# Altium integrated library TI_Logic_Little_Logic.IntLib: 1164 symbols (part 10 of 35)
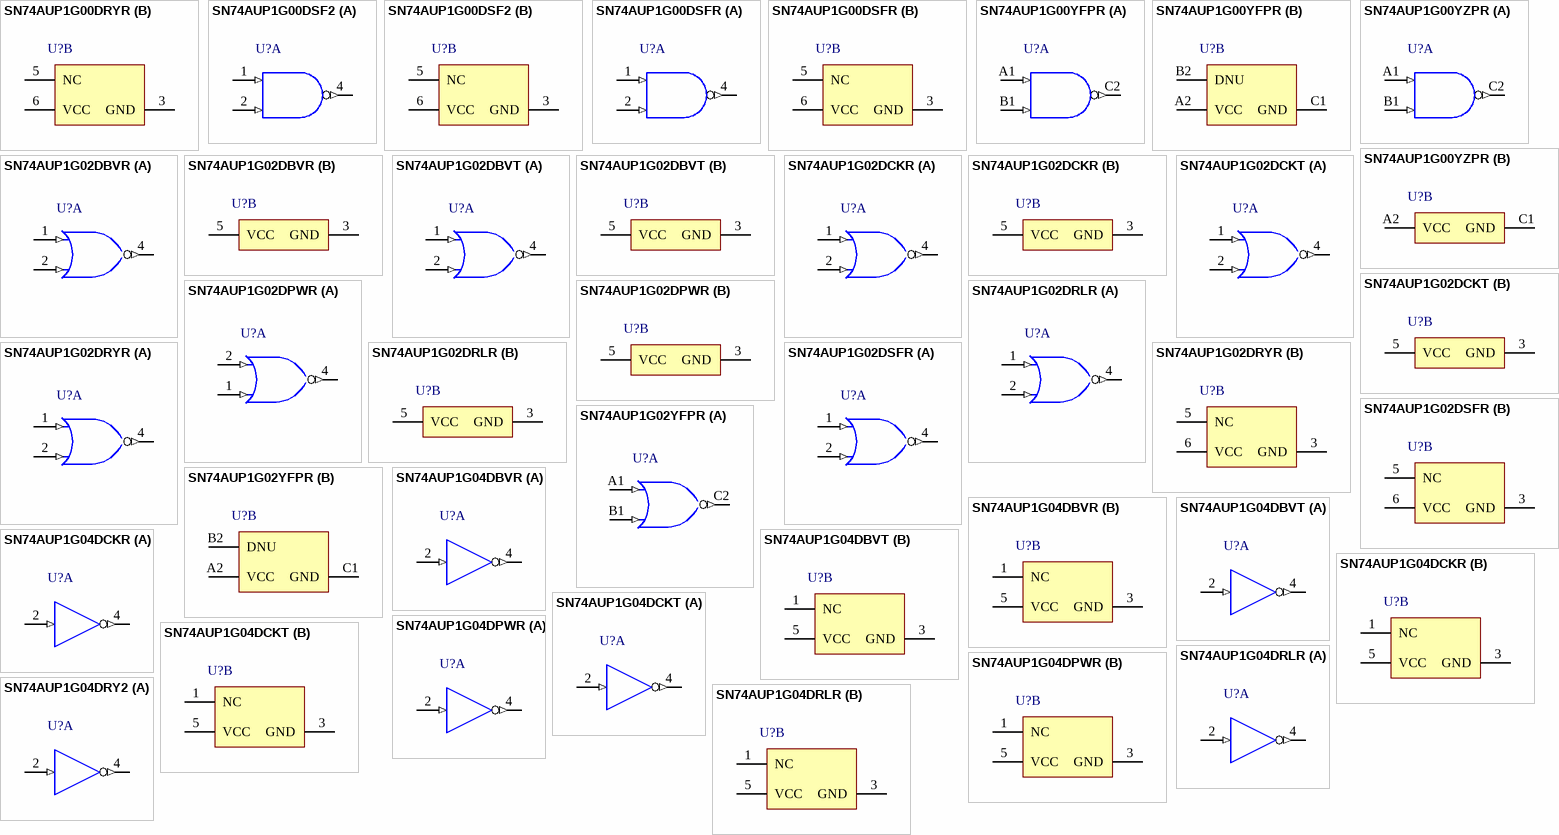
[diagram p69: symbols SN74AUP1G00DRYR to SN74AUP1G04DRY2]

## SN74AUP1G04DCKR
designator U?
Low-Power Single Inverter Gate, DCK0005A, LARGE T&R; Generic Part Number: SN74AUP1G04; Manufacturer: Texas Instruments; PartNumber: SN74AUP1G04DCKR; VCC(Min)(V): 0.8; VCC(Max)(V): 3.6; Output Type: CMOS; ICC @ Nom Voltage(Max)(mA): 0.0009; Bits(#): 1; F @ Nom Voltage(Max)(Mhz): 100; Rating: Catalog; Technology Family: AUP; Voltage(Nom)(V): 0.8,1.2,1.5,1.8,2.5,3.3; Schmitt Trigger: No; Output Drive (IOL/IOH)(Max)(mA): 20/-20; tpd @ Nom Voltage(Max)(ns): 25.4,16,10.8,9.2,6.5,5.4; Logic: Inverting; Sub-Family: Inverting Buffer/Driver; DatasheetVersion: SCES571K; PackageReference: DCK0005A; Supplier 1: Mouser; Supplier Part Number 1: 595-SN74AUP1G04DCKR; Supplier 2: Digi-Key; Supplier Part Number 2: 296-19072-2-ND; Supplier 3: Digi-Key; Supplier Part Number 3: 296-19072-1-ND; Supplier 4: Digi-Key; Supplier Part Number 4: 296-19072-6-ND; Input Type: CMOS; Operating Temperature Range(C): -40 to 85; 3-State Output: No; ComponentLink1Description: Manufacturer URL; ComponentLink1URL: http://www.ti.com/; ComponentLink2Description: Datasheet; ComponentLink2URL: http://www.ti.com/lit/ds/symlink/sn74aup1g04.pdf
footprint DCK0005A_N (SOT23, 5-Leads, Body 2.15x1.4mm, Pitch 0.65mm, IPC Medium Density)
footprint DCK0005A_M (SOT23, 5-Leads, Body 2.15x1.4mm, Pitch 0.65mm, IPC Low Density)
footprint DCK0005A_L (SOT23, 5-Leads, Body 2.15x1.4mm, Pitch 0.65mm, IPC High Density)
part A pins: 2 A (in) "Input A", 4 Y (out) "Output Y"
part B pins: 1 NC "Ground", 3 GND (power) "Ground Pin", 5 VCC (power) "Power Pin"

## SN74AUP1G04DCKT
designator U?
Low-Power Single Inverter Gate, DCK0005A, SMALL T&R; Generic Part Number: SN74AUP1G04; Manufacturer: Texas Instruments; PartNumber: SN74AUP1G04DCKT; VCC(Min)(V): 0.8; VCC(Max)(V): 3.6; Output Type: CMOS; ICC @ Nom Voltage(Max)(mA): 0.0009; Bits(#): 1; F @ Nom Voltage(Max)(Mhz): 100; Rating: Catalog; Technology Family: AUP; Voltage(Nom)(V): 0.8,1.2,1.5,1.8,2.5,3.3; Schmitt Trigger: No; Output Drive (IOL/IOH)(Max)(mA): 20/-20; tpd @ Nom Voltage(Max)(ns): 25.4,16,10.8,9.2,6.5,5.4; Logic: Inverting; Sub-Family: Inverting Buffer/Driver; DatasheetVersion: SCES571K; PackageReference: DCK0005A; Supplier 1: Mouser; Supplier Part Number 1: 595-SN74AUP1G04DCKT; Supplier 2: Digi-Key; Supplier Part Number 2: 296-32254-2-ND; Supplier 3: Digi-Key; Supplier Part Number 3: 296-32254-1-ND; Supplier 4: Digi-Key; Supplier Part Number 4: 296-32254-6-ND; Input Type: CMOS; Operating Temperature Range(C): -40 to 85; 3-State Output: No; ComponentLink1Description: Manufacturer URL; ComponentLink1URL: http://www.ti.com/; ComponentLink2Description: Datasheet; ComponentLink2URL: http://www.ti.com/lit/ds/symlink/sn74aup1g04.pdf
footprint DCK0005A_N (SOT23, 5-Leads, Body 2.15x1.4mm, Pitch 0.65mm, IPC Medium Density)
footprint DCK0005A_M (SOT23, 5-Leads, Body 2.15x1.4mm, Pitch 0.65mm, IPC Low Density)
footprint DCK0005A_L (SOT23, 5-Leads, Body 2.15x1.4mm, Pitch 0.65mm, IPC High Density)
part A pins: 2 A (in) "Input A", 4 Y (out) "Output Y"
part B pins: 1 NC "Ground", 3 GND (power) "Ground Pin", 5 VCC (power) "Power Pin"

## SN74AUP1G04DPWR
designator U?
Low-Power Single Inverter Gate, DPW0004A, LARGE T&R; Generic Part Number: SN74AUP1G04; Manufacturer: Texas Instruments; PartNumber: SN74AUP1G04DPWR; VCC(Min)(V): 0.8; VCC(Max)(V): 3.6; Output Type: CMOS; ICC @ Nom Voltage(Max)(mA): 0.0009; Bits(#): 1; F @ Nom Voltage(Max)(Mhz): 100; Rating: Catalog; Technology Family: AUP; Voltage(Nom)(V): 0.8,1.2,1.5,1.8,2.5,3.3; Schmitt Trigger: No; Output Drive (IOL/IOH)(Max)(mA): 20/-20; tpd @ Nom Voltage(Max)(ns): 25.4,16,10.8,9.2,6.5,5.4; Logic: Inverting; Sub-Family: Inverting Buffer/Driver; DatasheetVersion: SCES571K; PackageReference: DPW0004A; Supplier 1: Mouser; Supplier Part Number 1: 595-SN74AUP1G04DPWR; Supplier 2: Digi-Key; Supplier Part Number 2: 296-38019-2-ND; Supplier 3: Digi-Key; Supplier Part Number 3: 296-38019-1-ND; Supplier 4: Digi-Key; Supplier Part Number 4: 296-38019-6-ND; Input Type: CMOS; Operating Temperature Range(C): -40 to 85; 3-State Output: No; ComponentLink1Description: Manufacturer URL; ComponentLink1URL: http://www.ti.com/; ComponentLink2Description: Datasheet; ComponentLink2URL: http://www.ti.com/lit/ds/symlink/sn74aup1g04.pdf
footprint DPW0004A_V (SON, 5-Leads, Body 0.8x0.8mm, TI Recommend)
part A pins: 2 A (in) "Input A", 4 Y (out) "Output Y"
part B pins: 1 NC "Ground", 3 GND (power) "Ground Pin", 5 VCC (power) "Power Pin"

## SN74AUP1G04DRLR
designator U?
Low-Power Single Inverter Gate, DRL0005A, LARGE T&R; Generic Part Number: SN74AUP1G04; Manufacturer: Texas Instruments; PartNumber: SN74AUP1G04DRLR; VCC(Min)(V): 0.8; VCC(Max)(V): 3.6; Output Type: CMOS; ICC @ Nom Voltage(Max)(mA): 0.0009; Bits(#): 1; F @ Nom Voltage(Max)(Mhz): 100; Rating: Catalog; Technology Family: AUP; Voltage(Nom)(V): 0.8,1.2,1.5,1.8,2.5,3.3; Schmitt Trigger: No; Output Drive (IOL/IOH)(Max)(mA): 20/-20; tpd @ Nom Voltage(Max)(ns): 25.4,16,10.8,9.2,6.5,5.4; Logic: Inverting; Sub-Family: Inverting Buffer/Driver; DatasheetVersion: SCES571K; PackageReference: DRL0005A; Supplier 1: Mouser; Supplier Part Number 1: 595-SN74AUP1G04DRLR; Supplier 2: Digi-Key; Supplier Part Number 2: 296-19285-2-ND; Supplier 3: Digi-Key; Supplier Part Number 3: 296-19285-1-ND; Supplier 4: Digi-Key; Supplier Part Number 4: 296-19285-6-ND; Input Type: CMOS; Operating Temperature Range(C): -40 to 85; 3-State Output: No; ComponentLink1Description: Manufacturer URL; ComponentLink1URL: http://www.ti.com/; ComponentLink2Description: Datasheet; ComponentLink2URL: http://www.ti.com/lit/ds/symlink/sn74aup1g04.pdf
footprint DRL0005A_N (SOT23, 5-Leads, Body 1.7x1.3mm, Pitch 0.5mm, IPC Medium Density)
footprint DRL0005A_M (SOT23, 5-Leads, Body 1.7x1.3mm, Pitch 0.5mm, IPC Low Density)
footprint DRL0005A_L (SOT23, 5-Leads, Body 1.7x1.3mm, Pitch 0.5mm, IPC High Density)
part A pins: 2 A (in) "Input A", 4 Y (out) "Output Y"
part B pins: 1 NC "Ground", 3 GND (power) "Ground Pin", 5 VCC (power) "Power Pin"

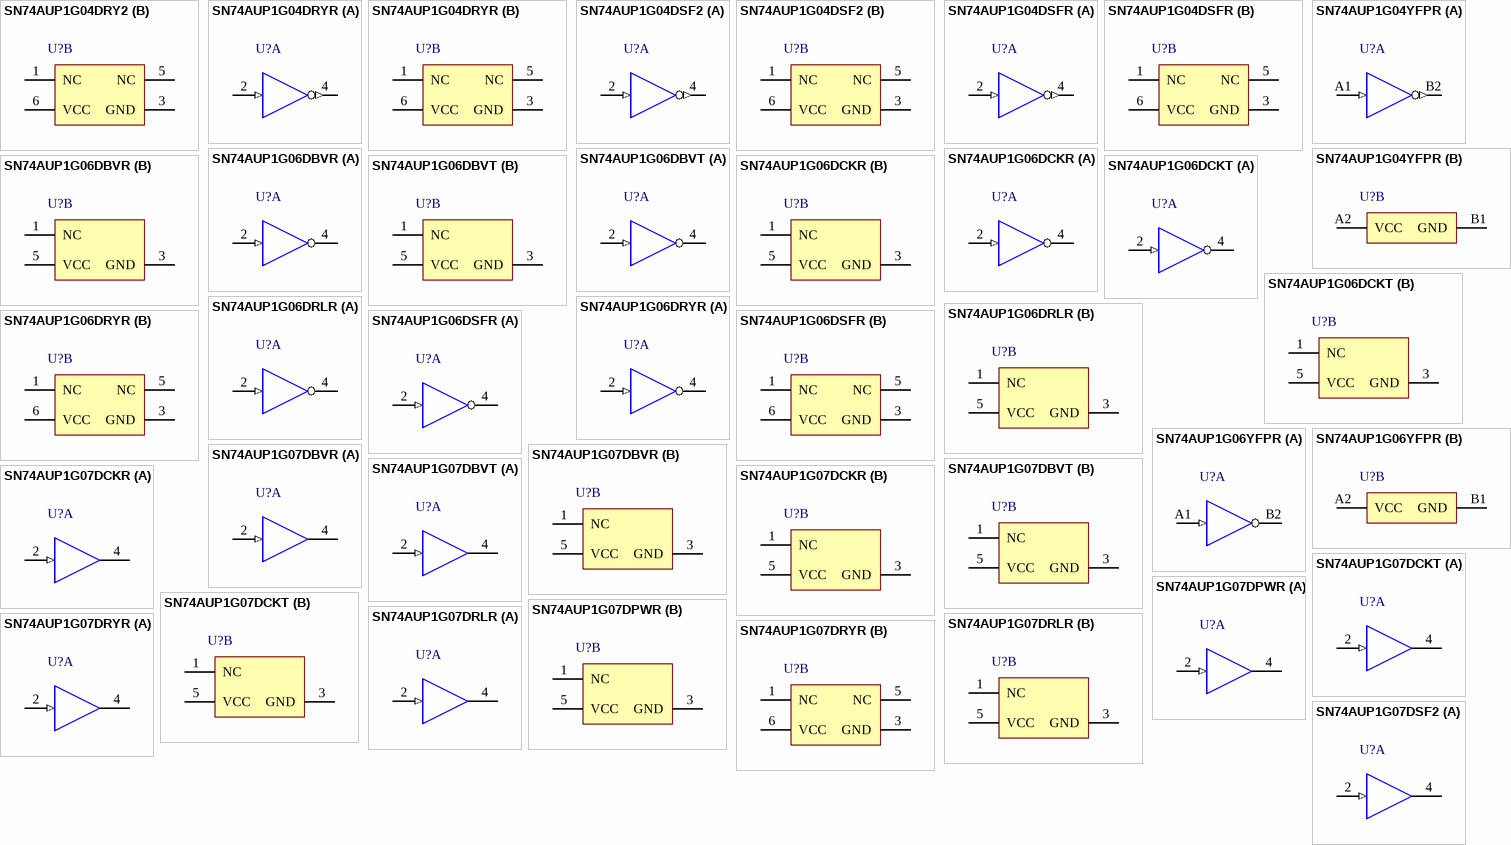
[diagram p16: symbols SN74AUP1G04DRY2 to SN74AUP1G07DSF2]

## SN74AUP1G04DRY2
designator U?
Low-Power Single Inverter Gate, DRY0006A, LARGE T&R; Generic Part Number: SN74AUP1G04; Manufacturer: Texas Instruments; PartNumber: SN74AUP1G04DRY2; VCC(Min)(V): 0.8; VCC(Max)(V): 3.6; Output Type: CMOS; ICC @ Nom Voltage(Max)(mA): 0.0009; Bits(#): 1; F @ Nom Voltage(Max)(Mhz): 100; Rating: Catalog; Technology Family: AUP; Voltage(Nom)(V): 0.8,1.2,1.5,1.8,2.5,3.3; Schmitt Trigger: No; Output Drive (IOL/IOH)(Max)(mA): 20/-20; tpd @ Nom Voltage(Max)(ns): 25.4,16,10.8,9.2,6.5,5.4; Logic: Inverting; Sub-Family: Inverting Buffer/Driver; DatasheetVersion: SCES571K; PackageReference: DRY0006A; Supplier 1: Mouser; Supplier Part Number 1: 595-SN74AUP1G04DRY2; Supplier 2: Digi-Key; Supplier Part Number 2: 296-30063-2-ND; Supplier 3: Digi-Key; Supplier Part Number 3: 296-30063-1-ND; Supplier 4: Digi-Key; Supplier Part Number 4: 296-30063-6-ND; Input Type: CMOS; Operating Temperature Range(C): -40 to 85; 3-State Output: No; ComponentLink1Description: Manufacturer URL; ComponentLink1URL: http://www.ti.com/; ComponentLink2Description: Datasheet; ComponentLink2URL: http://www.ti.com/lit/ds/symlink/sn74aup1g04.pdf
footprint DRY0006A_V (SON, 6-Leads, Body 1.45x1mm, Pitch 0.5mm)
part A pins: 2 A (in), 4 Y (out)
part B pins: 1 NC, 3 GND (power), 5 NC, 6 VCC (power)

## SN74AUP1G04DRYR
designator U?
Low-Power Single Inverter Gate, DRY0006A, LARGE T&R; Generic Part Number: SN74AUP1G04; Manufacturer: Texas Instruments; PartNumber: SN74AUP1G04DRYR; VCC(Min)(V): 0.8; VCC(Max)(V): 3.6; Output Type: CMOS; ICC @ Nom Voltage(Max)(mA): 0.0009; Bits(#): 1; F @ Nom Voltage(Max)(Mhz): 100; Rating: Catalog; Technology Family: AUP; Voltage(Nom)(V): 0.8,1.2,1.5,1.8,2.5,3.3; Schmitt Trigger: No; Output Drive (IOL/IOH)(Max)(mA): 20/-20; tpd @ Nom Voltage(Max)(ns): 25.4,16,10.8,9.2,6.5,5.4; Logic: Inverting; Sub-Family: Inverting Buffer/Driver; DatasheetVersion: SCES571K; PackageReference: DRY0006A; Supplier 1: Mouser; Supplier Part Number 1: 595-SN74AUP1G04DRYR; Supplier 2: Digi-Key; Supplier Part Number 2: 296-27339-2-ND; Supplier 3: Digi-Key; Supplier Part Number 3: 296-27339-1-ND; Supplier 4: Digi-Key; Supplier Part Number 4: 296-27339-6-ND; Input Type: CMOS; Operating Temperature Range(C): -40 to 85; 3-State Output: No; ComponentLink1Description: Manufacturer URL; ComponentLink1URL: http://www.ti.com/; ComponentLink2Description: Datasheet; ComponentLink2URL: http://www.ti.com/lit/ds/symlink/sn74aup1g04.pdf
footprint DRY0006A_V (SON, 6-Leads, Body 1.45x1mm, Pitch 0.5mm)
part A pins: 2 A (in), 4 Y (out)
part B pins: 1 NC, 3 GND (power), 5 NC, 6 VCC (power)

## SN74AUP1G04DSF2
designator U?
Low-Power Single Inverter Gate, DSF0006A, LARGE T&R; Generic Part Number: SN74AUP1G04; Manufacturer: Texas Instruments; PartNumber: SN74AUP1G04DSF2; VCC(Min)(V): 0.8; VCC(Max)(V): 3.6; Output Type: CMOS; ICC @ Nom Voltage(Max)(mA): 0.0009; Bits(#): 1; F @ Nom Voltage(Max)(Mhz): 100; Rating: Catalog; Technology Family: AUP; Voltage(Nom)(V): 0.8,1.2,1.5,1.8,2.5,3.3; Schmitt Trigger: No; Output Drive (IOL/IOH)(Max)(mA): 20/-20; tpd @ Nom Voltage(Max)(ns): 25.4,16,10.8,9.2,6.5,5.4; Logic: Inverting; Sub-Family: Inverting Buffer/Driver; DatasheetVersion: SCES571K; PackageReference: DSF0006A; Supplier 1: Mouser; Supplier Part Number 1: 595-SN74AUP1G04DSF2; Supplier 2: Digi-Key; Supplier Part Number 2: SN74AUP1G04DSF2-ND; Input Type: CMOS; Operating Temperature Range(C): -40 to 85; 3-State Output: No; ComponentLink1Description: Manufacturer URL; ComponentLink1URL: http://www.ti.com/; ComponentLink2Description: Datasheet; ComponentLink2URL: http://www.ti.com/lit/ds/symlink/sn74aup1g04.pdf
footprint DSF0006A_V (SON, 6-Leads, Body 1x1mm, Pitch 0.35mm, TI Recommend)
part A pins: 2 A (in), 4 Y (out)
part B pins: 1 NC, 3 GND (power), 5 NC, 6 VCC (power)

## SN74AUP1G04DSFR
designator U?
Low-Power Single Inverter Gate, DSF0006A, LARGE T&R; Generic Part Number: SN74AUP1G04; Manufacturer: Texas Instruments; PartNumber: SN74AUP1G04DSFR; VCC(Min)(V): 0.8; VCC(Max)(V): 3.6; Output Type: CMOS; ICC @ Nom Voltage(Max)(mA): 0.0009; Bits(#): 1; F @ Nom Voltage(Max)(Mhz): 100; Rating: Catalog; Technology Family: AUP; Voltage(Nom)(V): 0.8,1.2,1.5,1.8,2.5,3.3; Schmitt Trigger: No; Output Drive (IOL/IOH)(Max)(mA): 20/-20; tpd @ Nom Voltage(Max)(ns): 25.4,16,10.8,9.2,6.5,5.4; Logic: Inverting; Sub-Family: Inverting Buffer/Driver; DatasheetVersion: SCES571K; PackageReference: DSF0006A; Supplier 1: Mouser; Supplier Part Number 1: 595-SN74AUP1G04DSFR; Supplier 2: Digi-Key; Supplier Part Number 2: 296-27266-2-ND; Supplier 3: Digi-Key; Supplier Part Number 3: 296-27266-1-ND; Supplier 4: Digi-Key; Supplier Part Number 4: 296-27266-6-ND; Input Type: CMOS; Operating Temperature Range(C): -40 to 85; 3-State Output: No; ComponentLink1Description: Manufacturer URL; ComponentLink1URL: http://www.ti.com/; ComponentLink2Description: Datasheet; ComponentLink2URL: http://www.ti.com/lit/ds/symlink/sn74aup1g04.pdf
footprint DSF0006A_V (SON, 6-Leads, Body 1x1mm, Pitch 0.35mm, TI Recommend)
part A pins: 2 A (in), 4 Y (out)
part B pins: 1 NC, 3 GND (power), 5 NC, 6 VCC (power)

## SN74AUP1G04YFPR
designator U?
Low-Power Single Inverter Gate, YZP0004AAAA, LARGE T&R; Generic Part Number: SN74AUP1G04; Manufacturer: Texas Instruments; PartNumber: SN74AUP1G04YFPR; VCC(Min)(V): 0.8; VCC(Max)(V): 3.6; Output Type: CMOS; ICC @ Nom Voltage(Max)(mA): 0.0009; Bits(#): 1; F @ Nom Voltage(Max)(Mhz): 100; Rating: Catalog; Technology Family: AUP; Voltage(Nom)(V): 0.8,1.2,1.5,1.8,2.5,3.3; Schmitt Trigger: No; Output Drive (IOL/IOH)(Max)(mA): 20/-20; tpd @ Nom Voltage(Max)(ns): 25.4,16,10.8,9.2,6.5,5.4; Logic: Inverting; Sub-Family: Inverting Buffer/Driver; DatasheetVersion: SCES571K; PackageReference: YZP0004AAAA; Supplier 1: Mouser; Supplier Part Number 1: 595-SN74AUP1G04YFPR; Supplier 2: Digi-Key; Supplier Part Number 2: 296-25196-2-ND; Supplier 3: Digi-Key; Supplier Part Number 3: 296-25196-1-ND; Supplier 4: Digi-Key; Supplier Part Number 4: 296-25196-6-ND; Input Type: CMOS; Operating Temperature Range(C): -40 to 85; 3-State Output: No; ComponentLink1Description: Manufacturer URL; ComponentLink1URL: http://www.ti.com/; ComponentLink2Description: Datasheet; ComponentLink2URL: http://www.ti.com/lit/ds/symlink/sn74aup1g04.pdf
footprint YZP0004AAAA (BGA, 4-Balls, Body 0.76x0.76mm, Pitch 0.4mm)
part A pins: A1 A (in) "Input", B2 Y (out) "Output"
part B pins: A2 VCC (power) "Power pin", B1 GND (power) "Ground"

## SN74AUP1G06DBVR
designator U?
Low-Power Single Inverter Buffer/Driver with Open-Drain Outputs, DBV0005A, LARGE T&R; Generic Part Number: SN74AUP1G06; Manufacturer: Texas Instruments; PartNumber: SN74AUP1G06DBVR; VCC(Min)(V): 0.8; VCC(Max)(V): 3.6; Output Type: CMOS; ICC @ Nom Voltage(Max)(mA): 0.0009; Bits(#): 1; F @ Nom Voltage(Max)(Mhz): 100; Rating: Catalog; Technology Family: AUP; Voltage(Nom)(V): 0.8,1.2,1.5,1.8,2.5,3.3; Schmitt Trigger: No; Output Drive (IOL/IOH)(Max)(mA): 20/-20; tpd @ Nom Voltage(Max)(ns): 25.3,16,10.1,10.7,7.1,10.5; Logic: Inverting; Sub-Family: Inverting Buffer/Driver; DatasheetVersion: SCES590D; PackageReference: DBV0005A; Supplier 1: Mouser; Supplier Part Number 1: 595-SN74AUP1G06DBVR; Supplier 2: Digi-Key; Supplier Part Number 2: 296-17561-2-ND; Supplier 3: Digi-Key; Supplier Part Number 3: 296-17561-1-ND; Supplier 4: Digi-Key; Supplier Part Number 4: 296-17561-6-ND; Input Type: CMOS; Operating Temperature Range(C): -40 to 85; 3-State Output: No; ComponentLink1Description: Manufacturer URL; ComponentLink1URL: http://www.ti.com/; ComponentLink2Description: Datasheet; ComponentLink2URL: http://www.ti.com/lit/ds/symlink/sn74aup1g06.pdf
footprint DBV0005A_N (SOT23, 5-Leads, Body 3.05x1.75mm, Pitch 0.95mm, IPC Medium Density)
footprint DBV0005A_M (SOT23, 5-Leads, Body 3.05x1.75mm, Pitch 0.95mm, IPC Low Density)
footprint DBV0005A_L (SOT23, 5-Leads, Body 3.05x1.75mm, Pitch 0.95mm, IPC High Density)
part A pins: 2 A (in), 4 Y (oc)
part B pins: 1 NC, 3 GND (power), 5 VCC (power)

## SN74AUP1G06DBVT
designator U?
Low-Power Single Inverter Buffer/Driver with Open-Drain Outputs, DBV0005A, SMALL T&R; Generic Part Number: SN74AUP1G06; Manufacturer: Texas Instruments; PartNumber: SN74AUP1G06DBVT; VCC(Min)(V): 0.8; VCC(Max)(V): 3.6; Output Type: CMOS; ICC @ Nom Voltage(Max)(mA): 0.0009; Bits(#): 1; F @ Nom Voltage(Max)(Mhz): 100; Rating: Catalog; Technology Family: AUP; Voltage(Nom)(V): 0.8,1.2,1.5,1.8,2.5,3.3; Schmitt Trigger: No; Output Drive (IOL/IOH)(Max)(mA): 20/-20; tpd @ Nom Voltage(Max)(ns): 25.3,16,10.1,10.7,7.1,10.5; Logic: Inverting; Sub-Family: Inverting Buffer/Driver; DatasheetVersion: SCES590D; PackageReference: DBV0005A; Supplier 1: Mouser; Supplier Part Number 1: 595-SN74AUP1G06DBVT; Supplier 2: Digi-Key; Supplier Part Number 2: SN74AUP1G06DBVT-ND; Input Type: CMOS; Operating Temperature Range(C): -40 to 85; 3-State Output: No; ComponentLink1Description: Manufacturer URL; ComponentLink1URL: http://www.ti.com/; ComponentLink2Description: Datasheet; ComponentLink2URL: http://www.ti.com/lit/ds/symlink/sn74aup1g06.pdf
footprint DBV0005A_N (SOT23, 5-Leads, Body 3.05x1.75mm, Pitch 0.95mm, IPC Medium Density)
footprint DBV0005A_M (SOT23, 5-Leads, Body 3.05x1.75mm, Pitch 0.95mm, IPC Low Density)
footprint DBV0005A_L (SOT23, 5-Leads, Body 3.05x1.75mm, Pitch 0.95mm, IPC High Density)
part A pins: 2 A (in), 4 Y (oc)
part B pins: 1 NC, 3 GND (power), 5 VCC (power)

## SN74AUP1G06DCKR
designator U?
Low-Power Single Inverter Buffer/Driver with Open-Drain Outputs, DCK0005A, LARGE T&R; Generic Part Number: SN74AUP1G06; Manufacturer: Texas Instruments; PartNumber: SN74AUP1G06DCKR; VCC(Min)(V): 0.8; VCC(Max)(V): 3.6; Output Type: CMOS; ICC @ Nom Voltage(Max)(mA): 0.0009; Bits(#): 1; F @ Nom Voltage(Max)(Mhz): 100; Rating: Catalog; Technology Family: AUP; Voltage(Nom)(V): 0.8,1.2,1.5,1.8,2.5,3.3; Schmitt Trigger: No; Output Drive (IOL/IOH)(Max)(mA): 20/-20; tpd @ Nom Voltage(Max)(ns): 25.3,16,10.1,10.7,7.1,10.5; Logic: Inverting; Sub-Family: Inverting Buffer/Driver; DatasheetVersion: SCES590D; PackageReference: DCK0005A; Supplier 1: Mouser; Supplier Part Number 1: 595-SN74AUP1G06DCKR; Supplier 2: Digi-Key; Supplier Part Number 2: 296-17562-2-ND; Supplier 3: Digi-Key; Supplier Part Number 3: 296-17562-1-ND; Supplier 4: Digi-Key; Supplier Part Number 4: 296-17562-6-ND; Input Type: CMOS; Operating Temperature Range(C): -40 to 85; 3-State Output: No; ComponentLink1Description: Manufacturer URL; ComponentLink1URL: http://www.ti.com/; ComponentLink2Description: Datasheet; ComponentLink2URL: http://www.ti.com/lit/ds/symlink/sn74aup1g06.pdf
footprint DCK0005A_N (SOT23, 5-Leads, Body 2.15x1.4mm, Pitch 0.65mm, IPC Medium Density)
footprint DCK0005A_M (SOT23, 5-Leads, Body 2.15x1.4mm, Pitch 0.65mm, IPC Low Density)
footprint DCK0005A_L (SOT23, 5-Leads, Body 2.15x1.4mm, Pitch 0.65mm, IPC High Density)
part A pins: 2 A (in), 4 Y (oc)
part B pins: 1 NC, 3 GND (power), 5 VCC (power)

## SN74AUP1G06DCKT
designator U?
Low-Power Single Inverter Buffer/Driver with Open-Drain Outputs, DCK0005A, SMALL T&R; Generic Part Number: SN74AUP1G06; Manufacturer: Texas Instruments; PartNumber: SN74AUP1G06DCKT; VCC(Min)(V): 0.8; VCC(Max)(V): 3.6; Output Type: CMOS; ICC @ Nom Voltage(Max)(mA): 0.0009; Bits(#): 1; F @ Nom Voltage(Max)(Mhz): 100; Rating: Catalog; Technology Family: AUP; Voltage(Nom)(V): 0.8,1.2,1.5,1.8,2.5,3.3; Schmitt Trigger: No; Output Drive (IOL/IOH)(Max)(mA): 20/-20; tpd @ Nom Voltage(Max)(ns): 25.3,16,10.1,10.7,7.1,10.5; Logic: Inverting; Sub-Family: Inverting Buffer/Driver; DatasheetVersion: SCES590D; PackageReference: DCK0005A; Supplier 1: Mouser; Supplier Part Number 1: 595-SN74AUP1G06DCKT; Supplier 2: Digi-Key; Supplier Part Number 2: 296-32255-2-ND; Supplier 3: Digi-Key; Supplier Part Number 3: 296-32255-1-ND; Supplier 4: Digi-Key; Supplier Part Number 4: 296-32255-6-ND; Input Type: CMOS; Operating Temperature Range(C): -40 to 85; 3-State Output: No; ComponentLink1Description: Manufacturer URL; ComponentLink1URL: http://www.ti.com/; ComponentLink2Description: Datasheet; ComponentLink2URL: http://www.ti.com/lit/ds/symlink/sn74aup1g06.pdf
footprint DCK0005A_N (SOT23, 5-Leads, Body 2.15x1.4mm, Pitch 0.65mm, IPC Medium Density)
footprint DCK0005A_M (SOT23, 5-Leads, Body 2.15x1.4mm, Pitch 0.65mm, IPC Low Density)
footprint DCK0005A_L (SOT23, 5-Leads, Body 2.15x1.4mm, Pitch 0.65mm, IPC High Density)
part A pins: 2 A (in), 4 Y (oc)
part B pins: 1 NC, 3 GND (power), 5 VCC (power)

## SN74AUP1G06DRLR
designator U?
Low-Power Single Inverter Buffer/Driver with Open-Drain Outputs, DRL0005A, LARGE T&R; Generic Part Number: SN74AUP1G06; Manufacturer: Texas Instruments; PartNumber: SN74AUP1G06DRLR; VCC(Min)(V): 0.8; VCC(Max)(V): 3.6; Output Type: CMOS; ICC @ Nom Voltage(Max)(mA): 0.0009; Bits(#): 1; F @ Nom Voltage(Max)(Mhz): 100; Rating: Catalog; Technology Family: AUP; Voltage(Nom)(V): 0.8,1.2,1.5,1.8,2.5,3.3; Schmitt Trigger: No; Output Drive (IOL/IOH)(Max)(mA): 20/-20; tpd @ Nom Voltage(Max)(ns): 25.3,16,10.1,10.7,7.1,10.5; Logic: Inverting; Sub-Family: Inverting Buffer/Driver; DatasheetVersion: SCES590D; PackageReference: DRL0005A; Supplier 1: Mouser; Supplier Part Number 1: 595-SN74AUP1G06DRLR; Supplier 2: Digi-Key; Supplier Part Number 2: 296-21810-2-ND; Supplier 3: Digi-Key; Supplier Part Number 3: 296-21810-1-ND; Supplier 4: Digi-Key; Supplier Part Number 4: 296-21810-6-ND; Input Type: CMOS; Operating Temperature Range(C): -40 to 85; 3-State Output: No; ComponentLink1Description: Manufacturer URL; ComponentLink1URL: http://www.ti.com/; ComponentLink2Description: Datasheet; ComponentLink2URL: http://www.ti.com/lit/ds/symlink/sn74aup1g06.pdf
footprint DRL0005A_N (SOT23, 5-Leads, Body 1.7x1.3mm, Pitch 0.5mm, IPC Medium Density)
footprint DRL0005A_M (SOT23, 5-Leads, Body 1.7x1.3mm, Pitch 0.5mm, IPC Low Density)
footprint DRL0005A_L (SOT23, 5-Leads, Body 1.7x1.3mm, Pitch 0.5mm, IPC High Density)
part A pins: 2 A (in), 4 Y (oc)
part B pins: 1 NC, 3 GND (power), 5 VCC (power)

## SN74AUP1G06DRYR
designator U?
Low-Power Single Inverter Buffer/Driver with Open-Drain Outputs, DRY0006A, LARGE T&R; Generic Part Number: SN74AUP1G06; Manufacturer: Texas Instruments; PartNumber: SN74AUP1G06DRYR; VCC(Min)(V): 0.8; VCC(Max)(V): 3.6; Output Type: CMOS; ICC @ Nom Voltage(Max)(mA): 0.0009; Bits(#): 1; F @ Nom Voltage(Max)(Mhz): 100; Rating: Catalog; Technology Family: AUP; Voltage(Nom)(V): 0.8,1.2,1.5,1.8,2.5,3.3; Schmitt Trigger: No; Output Drive (IOL/IOH)(Max)(mA): 20/-20; tpd @ Nom Voltage(Max)(ns): 25.3,16,10.1,10.7,7.1,10.5; Logic: Inverting; Sub-Family: Inverting Buffer/Driver; DatasheetVersion: SCES590D; PackageReference: DRY0006A; Supplier 1: Mouser; Supplier Part Number 1: 595-SN74AUP1G06DRYR; Supplier 2: Digi-Key; Supplier Part Number 2: 296-27267-2-ND; Supplier 3: Digi-Key; Supplier Part Number 3: 296-27267-1-ND; Supplier 4: Digi-Key; Supplier Part Number 4: 296-27267-6-ND; Input Type: CMOS; Operating Temperature Range(C): -40 to 85; 3-State Output: No; ComponentLink1Description: Manufacturer URL; ComponentLink1URL: http://www.ti.com/; ComponentLink2Description: Datasheet; ComponentLink2URL: http://www.ti.com/lit/ds/symlink/sn74aup1g06.pdf
footprint DRY0006A_V (SON, 6-Leads, Body 1.45x1mm, Pitch 0.5mm)
part A pins: 2 A (in), 4 Y (oc)
part B pins: 1 NC, 3 GND (power), 5 NC, 6 VCC (power)

## SN74AUP1G06DSFR
designator U?
Low-Power Single Inverter Buffer/Driver with Open-Drain Outputs, DSF0006A, LARGE T&R; Generic Part Number: SN74AUP1G06; Manufacturer: Texas Instruments; PartNumber: SN74AUP1G06DSFR; VCC(Min)(V): 0.8; VCC(Max)(V): 3.6; Output Type: CMOS; ICC @ Nom Voltage(Max)(mA): 0.0009; Bits(#): 1; F @ Nom Voltage(Max)(Mhz): 100; Rating: Catalog; Technology Family: AUP; Voltage(Nom)(V): 0.8,1.2,1.5,1.8,2.5,3.3; Schmitt Trigger: No; Output Drive (IOL/IOH)(Max)(mA): 20/-20; tpd @ Nom Voltage(Max)(ns): 25.3,16,10.1,10.7,7.1,10.5; Logic: Inverting; Sub-Family: Inverting Buffer/Driver; DatasheetVersion: SCES590D; PackageReference: DSF0006A; Supplier 1: Mouser; Supplier Part Number 1: 595-SN74AUP1G06DSFR; Supplier 2: Digi-Key; Supplier Part Number 2: 296-27307-2-ND; Supplier 3: Digi-Key; Supplier Part Number 3: 296-27307-1-ND; Supplier 4: Digi-Key; Supplier Part Number 4: 296-27307-6-ND; Input Type: CMOS; Operating Temperature Range(C): -40 to 85; 3-State Output: No; ComponentLink1Description: Manufacturer URL; ComponentLink1URL: http://www.ti.com/; ComponentLink2Description: Datasheet; ComponentLink2URL: http://www.ti.com/lit/ds/symlink/sn74aup1g06.pdf
footprint DSF0006A_V (SON, 6-Leads, Body 1x1mm, Pitch 0.35mm, TI Recommend)
part A pins: 2 A (in), 4 Y (oc)
part B pins: 1 NC, 3 GND (power), 5 NC, 6 VCC (power)

## SN74AUP1G06YFPR
designator U?
Low-Power Single Inverter Buffer/Driver with Open-Drain Outputs, YZP0004AAAA, LARGE T&R; Generic Part Number: SN74AUP1G06; Manufacturer: Texas Instruments; PartNumber: SN74AUP1G06YFPR; VCC(Min)(V): 0.8; VCC(Max)(V): 3.6; Output Type: CMOS; ICC @ Nom Voltage(Max)(mA): 0.0009; Bits(#): 1; F @ Nom Voltage(Max)(Mhz): 100; Rating: Catalog; Technology Family: AUP; Voltage(Nom)(V): 0.8,1.2,1.5,1.8,2.5,3.3; Schmitt Trigger: No; Output Drive (IOL/IOH)(Max)(mA): 20/-20; tpd @ Nom Voltage(Max)(ns): 25.3,16,10.1,10.7,7.1,10.5; Logic: Inverting; Sub-Family: Inverting Buffer/Driver; DatasheetVersion: SCES590D; PackageReference: YZP0004AAAA; Supplier 1: Mouser; Supplier Part Number 1: 595-SN74AUP1G06YFPR; Supplier 2: Digi-Key; Supplier Part Number 2: 296-25197-2-ND; Supplier 3: Digi-Key; Supplier Part Number 3: 296-25197-1-ND; Supplier 4: Digi-Key; Supplier Part Number 4: 296-25197-6-ND; Input Type: CMOS; Operating Temperature Range(C): -40 to 85; 3-State Output: No; ComponentLink1Description: Manufacturer URL; ComponentLink1URL: http://www.ti.com/; ComponentLink2Description: Datasheet; ComponentLink2URL: http://www.ti.com/lit/ds/symlink/sn74aup1g06.pdf
footprint YZP0004AAAA (BGA, 4-Balls, Body 0.76x0.76mm, Pitch 0.4mm)
part A pins: A1 A (in), B2 Y (oc)
part B pins: A2 VCC (power), B1 GND (power)

## SN74AUP1G07DBVR
designator U?
Low-Power Single Buffer/Driver with Open-Drain Outputs, DBV0005A, LARGE T&R; Generic Part Number: SN74AUP1G07; Manufacturer: Texas Instruments; PartNumber: SN74AUP1G07DBVR; VCC(Min)(V): 0.8; VCC(Max)(V): 3.6; Output Type: CMOS; ICC @ Nom Voltage(Max)(mA): 0.0009; Bits(#): 1; F @ Nom Voltage(Max)(Mhz): 100; Rating: Catalog; Technology Family: AUP; Voltage(Nom)(V): 0.8,1.2,1.5,1.8,2.5,3.3; Schmitt Trigger: No; Output Drive (IOL/IOH)(Max)(mA): 20/-20; tpd @ Nom Voltage(Max)(ns): 26.5,14.4,9.4,9.7,6.7,9.7; Logic: True; Sub-Family: Non-Inverting Buffer/Driver; DatasheetVersion: SCES591J; PackageReference: DBV0005A; Supplier 1: Mouser; Supplier Part Number 1: 595-SN74AUP1G07DBVR; Supplier 2: Digi-Key; Supplier Part Number 2: 296-19073-2-ND; Supplier 3: Digi-Key; Supplier Part Number 3: 296-19073-1-ND; Supplier 4: Digi-Key; Supplier Part Number 4: 296-19073-6-ND; Input Type: CMOS; Operating Temperature Range(C): -40 to 85; 3-State Output: No; ComponentLink1Description: Manufacturer URL; ComponentLink1URL: http://www.ti.com/; ComponentLink2Description: Datasheet; ComponentLink2URL: http://www.ti.com/lit/ds/symlink/sn74aup1g07.pdf
footprint DBV0005A_N (SOT23, 5-Leads, Body 3.05x1.75mm, Pitch 0.95mm, IPC Medium Density)
footprint DBV0005A_M (SOT23, 5-Leads, Body 3.05x1.75mm, Pitch 0.95mm, IPC Low Density)
footprint DBV0005A_L (SOT23, 5-Leads, Body 3.05x1.75mm, Pitch 0.95mm, IPC High Density)
part A pins: 2 A (in) "Input A", 4 Y (oc) "Output Y"
part B pins: 1 NC "No Connection", 3 GND (power) "Ground Pin", 5 VCC (power) "Power Pin"

## SN74AUP1G07DBVT
designator U?
Low-Power Single Buffer/Driver with Open-Drain Outputs, DBV0005A, SMALL T&R; Generic Part Number: SN74AUP1G07; Manufacturer: Texas Instruments; PartNumber: SN74AUP1G07DBVT; VCC(Min)(V): 0.8; VCC(Max)(V): 3.6; Output Type: CMOS; ICC @ Nom Voltage(Max)(mA): 0.0009; Bits(#): 1; F @ Nom Voltage(Max)(Mhz): 100; Rating: Catalog; Technology Family: AUP; Voltage(Nom)(V): 0.8,1.2,1.5,1.8,2.5,3.3; Schmitt Trigger: No; Output Drive (IOL/IOH)(Max)(mA): 20/-20; tpd @ Nom Voltage(Max)(ns): 26.5,14.4,9.4,9.7,6.7,9.7; Logic: True; Sub-Family: Non-Inverting Buffer/Driver; DatasheetVersion: SCES591J; PackageReference: DBV0005A; Supplier 1: Mouser; Supplier Part Number 1: 595-SN74AUP1G07DBVT; Supplier 2: Digi-Key; Supplier Part Number 2: 296-32256-2-ND; Supplier 3: Digi-Key; Supplier Part Number 3: 296-32256-1-ND; Supplier 4: Digi-Key; Supplier Part Number 4: 296-32256-6-ND; Input Type: CMOS; Operating Temperature Range(C): -40 to 85; 3-State Output: No; ComponentLink1Description: Manufacturer URL; ComponentLink1URL: http://www.ti.com/; ComponentLink2Description: Datasheet; ComponentLink2URL: http://www.ti.com/lit/ds/symlink/sn74aup1g07.pdf
footprint DBV0005A_N (SOT23, 5-Leads, Body 3.05x1.75mm, Pitch 0.95mm, IPC Medium Density)
footprint DBV0005A_M (SOT23, 5-Leads, Body 3.05x1.75mm, Pitch 0.95mm, IPC Low Density)
footprint DBV0005A_L (SOT23, 5-Leads, Body 3.05x1.75mm, Pitch 0.95mm, IPC High Density)
part A pins: 2 A (in) "Input A", 4 Y (oc) "Output Y"
part B pins: 1 NC "No Connection", 3 GND (power) "Ground Pin", 5 VCC (power) "Power Pin"

## SN74AUP1G07DCKR
designator U?
Low-Power Single Buffer/Driver with Open-Drain Outputs, DCK0005A, LARGE T&R; Generic Part Number: SN74AUP1G07; Manufacturer: Texas Instruments; PartNumber: SN74AUP1G07DCKR; VCC(Min)(V): 0.8; VCC(Max)(V): 3.6; Output Type: CMOS; ICC @ Nom Voltage(Max)(mA): 0.0009; Bits(#): 1; F @ Nom Voltage(Max)(Mhz): 100; Rating: Catalog; Technology Family: AUP; Voltage(Nom)(V): 0.8,1.2,1.5,1.8,2.5,3.3; Schmitt Trigger: No; Output Drive (IOL/IOH)(Max)(mA): 20/-20; tpd @ Nom Voltage(Max)(ns): 26.5,14.4,9.4,9.7,6.7,9.7; Logic: True; Sub-Family: Non-Inverting Buffer/Driver; DatasheetVersion: SCES591J; PackageReference: DCK0005A; Supplier 1: Mouser; Supplier Part Number 1: 595-SN74AUP1G07DCKR; Supplier 2: Digi-Key; Supplier Part Number 2: 296-18256-2-ND; Supplier 3: Digi-Key; Supplier Part Number 3: 296-18256-1-ND; Supplier 4: Digi-Key; Supplier Part Number 4: 296-18256-6-ND; Input Type: CMOS; Operating Temperature Range(C): -40 to 85; 3-State Output: No; ComponentLink1Description: Manufacturer URL; ComponentLink1URL: http://www.ti.com/; ComponentLink2Description: Datasheet; ComponentLink2URL: http://www.ti.com/lit/ds/symlink/sn74aup1g07.pdf
footprint DCK0005A_N (SOT23, 5-Leads, Body 2.15x1.4mm, Pitch 0.65mm, IPC Medium Density)
footprint DCK0005A_M (SOT23, 5-Leads, Body 2.15x1.4mm, Pitch 0.65mm, IPC Low Density)
footprint DCK0005A_L (SOT23, 5-Leads, Body 2.15x1.4mm, Pitch 0.65mm, IPC High Density)
part A pins: 2 A (in) "Input A", 4 Y (oc) "Output Y"
part B pins: 1 NC "No Connection", 3 GND (power) "Ground Pin", 5 VCC (power) "Power Pin"

## SN74AUP1G07DCKT
designator U?
Low-Power Single Buffer/Driver with Open-Drain Outputs, DCK0005A, SMALL T&R; Generic Part Number: SN74AUP1G07; Manufacturer: Texas Instruments; PartNumber: SN74AUP1G07DCKT; VCC(Min)(V): 0.8; VCC(Max)(V): 3.6; Output Type: CMOS; ICC @ Nom Voltage(Max)(mA): 0.0009; Bits(#): 1; F @ Nom Voltage(Max)(Mhz): 100; Rating: Catalog; Technology Family: AUP; Voltage(Nom)(V): 0.8,1.2,1.5,1.8,2.5,3.3; Schmitt Trigger: No; Output Drive (IOL/IOH)(Max)(mA): 20/-20; tpd @ Nom Voltage(Max)(ns): 26.5,14.4,9.4,9.7,6.7,9.7; Logic: True; Sub-Family: Non-Inverting Buffer/Driver; DatasheetVersion: SCES591J; PackageReference: DCK0005A; Supplier 1: Mouser; Supplier Part Number 1: 595-SN74AUP1G07DCKT; Supplier 2: Digi-Key; Supplier Part Number 2: 296-32257-2-ND; Supplier 3: Digi-Key; Supplier Part Number 3: 296-32257-1-ND; Supplier 4: Digi-Key; Supplier Part Number 4: 296-32257-6-ND; Input Type: CMOS; Operating Temperature Range(C): -40 to 85; 3-State Output: No; ComponentLink1Description: Manufacturer URL; ComponentLink1URL: http://www.ti.com/; ComponentLink2Description: Datasheet; ComponentLink2URL: http://www.ti.com/lit/ds/symlink/sn74aup1g07.pdf
footprint DCK0005A_N (SOT23, 5-Leads, Body 2.15x1.4mm, Pitch 0.65mm, IPC Medium Density)
footprint DCK0005A_M (SOT23, 5-Leads, Body 2.15x1.4mm, Pitch 0.65mm, IPC Low Density)
footprint DCK0005A_L (SOT23, 5-Leads, Body 2.15x1.4mm, Pitch 0.65mm, IPC High Density)
part A pins: 2 A (in) "Input A", 4 Y (oc) "Output Y"
part B pins: 1 NC "No Connection", 3 GND (power) "Ground Pin", 5 VCC (power) "Power Pin"

## SN74AUP1G07DPWR
designator U?
Low-Power Single Buffer/Driver with Open-Drain Outputs, DPW0004A, LARGE T&R; Generic Part Number: SN74AUP1G07; Manufacturer: Texas Instruments; PartNumber: SN74AUP1G07DPWR; VCC(Min)(V): 0.8; VCC(Max)(V): 3.6; Output Type: CMOS; ICC @ Nom Voltage(Max)(mA): 0.0009; Bits(#): 1; F @ Nom Voltage(Max)(Mhz): 100; Rating: Catalog; Technology Family: AUP; Voltage(Nom)(V): 0.8,1.2,1.5,1.8,2.5,3.3; Schmitt Trigger: No; Output Drive (IOL/IOH)(Max)(mA): 20/-20; tpd @ Nom Voltage(Max)(ns): 26.5,14.4,9.4,9.7,6.7,9.7; Logic: True; Sub-Family: Non-Inverting Buffer/Driver; DatasheetVersion: SCES591J; PackageReference: DPW0004A; Supplier 1: Mouser; Supplier Part Number 1: 595-SN74AUP1G07DPWR; Supplier 2: Digi-Key; Supplier Part Number 2: 296-38020-2-ND; Supplier 3: Digi-Key; Supplier Part Number 3: 296-38020-1-ND; Supplier 4: Digi-Key; Supplier Part Number 4: 296-38020-6-ND; Input Type: CMOS; Operating Temperature Range(C): -40 to 85; 3-State Output: No; ComponentLink1Description: Manufacturer URL; ComponentLink1URL: http://www.ti.com/; ComponentLink2Description: Datasheet; ComponentLink2URL: http://www.ti.com/lit/ds/symlink/sn74aup1g07.pdf
footprint DPW0004A_V (SON, 5-Leads, Body 0.8x0.8mm, TI Recommend)
part A pins: 2 A (in) "Input A", 4 Y (oc) "Output Y"
part B pins: 1 NC "No Connection", 3 GND (power) "Ground Pin", 5 VCC (power) "Power Pin"

## SN74AUP1G07DRLR
designator U?
Low-Power Single Buffer/Driver with Open-Drain Outputs, DRL0005A, LARGE T&R; Generic Part Number: SN74AUP1G07; Manufacturer: Texas Instruments; PartNumber: SN74AUP1G07DRLR; VCC(Min)(V): 0.8; VCC(Max)(V): 3.6; Output Type: CMOS; ICC @ Nom Voltage(Max)(mA): 0.0009; Bits(#): 1; F @ Nom Voltage(Max)(Mhz): 100; Rating: Catalog; Technology Family: AUP; Voltage(Nom)(V): 0.8,1.2,1.5,1.8,2.5,3.3; Schmitt Trigger: No; Output Drive (IOL/IOH)(Max)(mA): 20/-20; tpd @ Nom Voltage(Max)(ns): 26.5,14.4,9.4,9.7,6.7,9.7; Logic: True; Sub-Family: Non-Inverting Buffer/Driver; DatasheetVersion: SCES591J; PackageReference: DRL0005A; Supplier 1: Mouser; Supplier Part Number 1: 595-SN74AUP1G07DRLR; Supplier 2: Digi-Key; Supplier Part Number 2: 296-21811-2-ND; Supplier 3: Digi-Key; Supplier Part Number 3: 296-21811-1-ND; Supplier 4: Digi-Key; Supplier Part Number 4: 296-21811-6-ND; Input Type: CMOS; Operating Temperature Range(C): -40 to 85; 3-State Output: No; ComponentLink1Description: Manufacturer URL; ComponentLink1URL: http://www.ti.com/; ComponentLink2Description: Datasheet; ComponentLink2URL: http://www.ti.com/lit/ds/symlink/sn74aup1g07.pdf
footprint DRL0005A_N (SOT23, 5-Leads, Body 1.7x1.3mm, Pitch 0.5mm, IPC Medium Density)
footprint DRL0005A_M (SOT23, 5-Leads, Body 1.7x1.3mm, Pitch 0.5mm, IPC Low Density)
footprint DRL0005A_L (SOT23, 5-Leads, Body 1.7x1.3mm, Pitch 0.5mm, IPC High Density)
part A pins: 2 A (in) "Input A", 4 Y (oc) "Output Y"
part B pins: 1 NC "No Connection", 3 GND (power) "Ground Pin", 5 VCC (power) "Power Pin"

## SN74AUP1G07DRYR
designator U?
Low-Power Single Buffer/Driver with Open-Drain Outputs, DRY0006A, LARGE T&R; Generic Part Number: SN74AUP1G07; Manufacturer: Texas Instruments; PartNumber: SN74AUP1G07DRYR; VCC(Min)(V): 0.8; VCC(Max)(V): 3.6; Output Type: CMOS; ICC @ Nom Voltage(Max)(mA): 0.0009; Bits(#): 1; F @ Nom Voltage(Max)(Mhz): 100; Rating: Catalog; Technology Family: AUP; Voltage(Nom)(V): 0.8,1.2,1.5,1.8,2.5,3.3; Schmitt Trigger: No; Output Drive (IOL/IOH)(Max)(mA): 20/-20; tpd @ Nom Voltage(Max)(ns): 26.5,14.4,9.4,9.7,6.7,9.7; Logic: True; Sub-Family: Non-Inverting Buffer/Driver; DatasheetVersion: SCES591J; PackageReference: DRY0006A; Supplier 1: Mouser; Supplier Part Number 1: 595-SN74AUP1G07DRYR; Supplier 2: Digi-Key; Supplier Part Number 2: 296-27340-2-ND; Supplier 3: Digi-Key; Supplier Part Number 3: 296-27340-1-ND; Supplier 4: Digi-Key; Supplier Part Number 4: 296-27340-6-ND; Input Type: CMOS; Operating Temperature Range(C): -40 to 85; 3-State Output: No; ComponentLink1Description: Manufacturer URL; ComponentLink1URL: http://www.ti.com/; ComponentLink2Description: Datasheet; ComponentLink2URL: http://www.ti.com/lit/ds/symlink/sn74aup1g07.pdf
footprint DRY0006A_V (SON, 6-Leads, Body 1.45x1mm, Pitch 0.5mm)
part A pins: 2 A (in) "Input", 4 Y (oc) "Output"
part B pins: 1 NC "No connect", 3 GND (power) "Ground", 5 NC "No connect", 6 VCC (power) "Power pin"

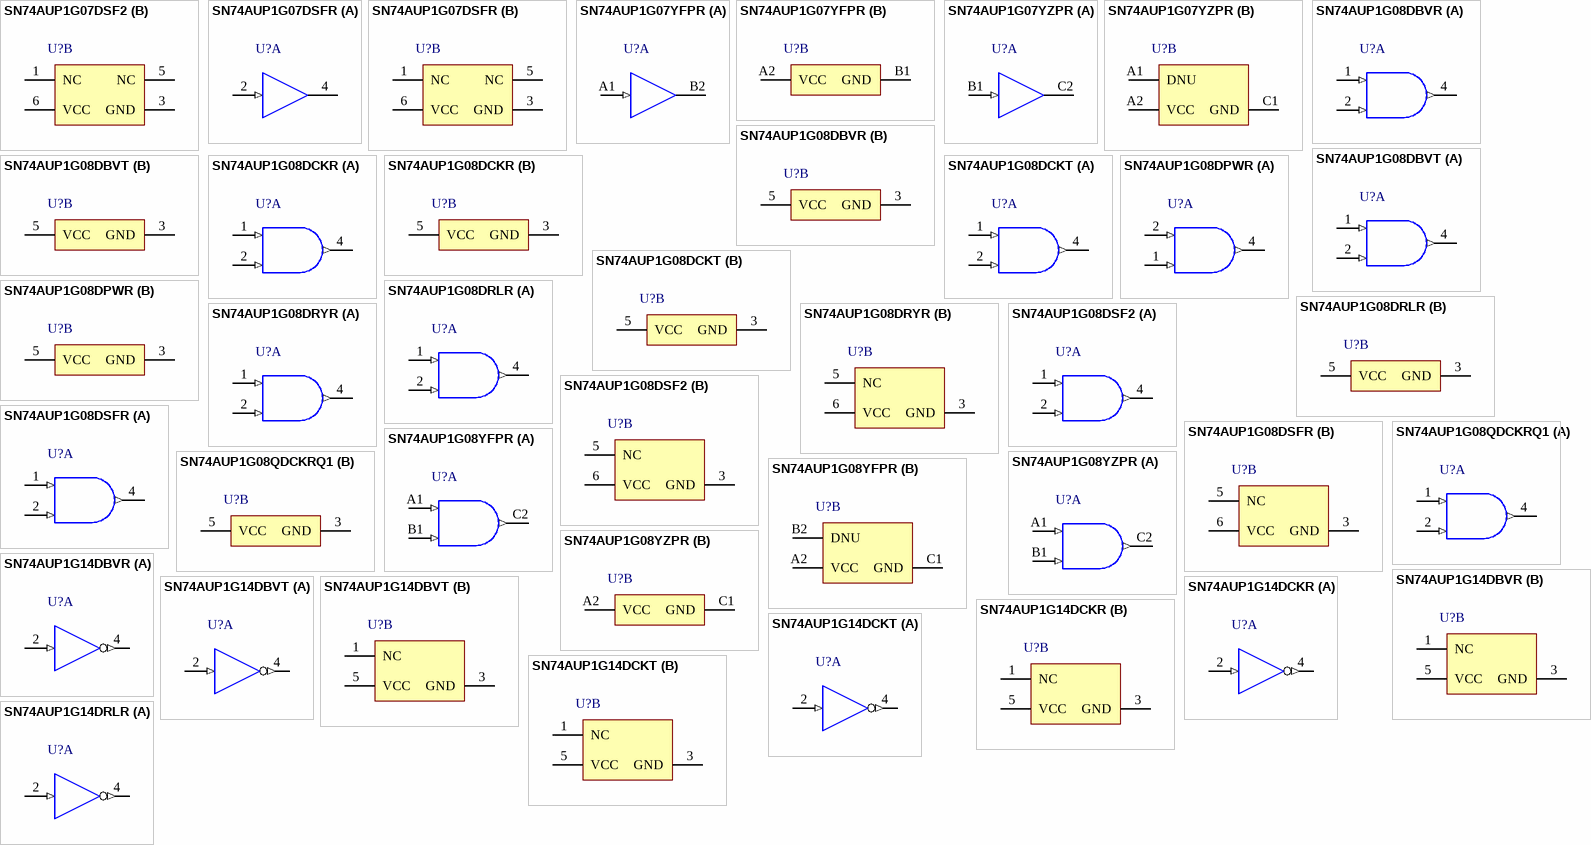
[diagram p17: symbols SN74AUP1G07DSF2 to SN74AUP1G14DRLR]

## SN74AUP1G07DSF2
designator U?
Low-Power Single Buffer/Driver with Open-Drain Outputs, DSF0006A, LARGE T&R; Generic Part Number: SN74AUP1G07; Manufacturer: Texas Instruments; PartNumber: SN74AUP1G07DSF2; VCC(Min)(V): 0.8; VCC(Max)(V): 3.6; Output Type: CMOS; ICC @ Nom Voltage(Max)(mA): 0.0009; Bits(#): 1; F @ Nom Voltage(Max)(Mhz): 100; Rating: Catalog; Technology Family: AUP; Voltage(Nom)(V): 0.8,1.2,1.5,1.8,2.5,3.3; Schmitt Trigger: No; Output Drive (IOL/IOH)(Max)(mA): 20/-20; tpd @ Nom Voltage(Max)(ns): 26.5,14.4,9.4,9.7,6.7,9.7; Logic: True; Sub-Family: Non-Inverting Buffer/Driver; DatasheetVersion: SCES591J; PackageReference: DSF0006A; Supplier 1: Mouser; Supplier Part Number 1: 595-SN74AUP1G07DSF2; Supplier 2: Digi-Key; Supplier Part Number 2: SN74AUP1G07DSF2-ND; Input Type: CMOS; Operating Temperature Range(C): -40 to 85; 3-State Output: No; ComponentLink1Description: Manufacturer URL; ComponentLink1URL: http://www.ti.com/; ComponentLink2Description: Datasheet; ComponentLink2URL: http://www.ti.com/lit/ds/symlink/sn74aup1g07.pdf
footprint DSF0006A_V (SON, 6-Leads, Body 1x1mm, Pitch 0.35mm, TI Recommend)
part A pins: 2 A (in) "Input", 4 Y (oc) "Output"
part B pins: 1 NC "No connect", 3 GND (power) "Ground", 5 NC "No connect", 6 VCC (power) "Power pin"

## SN74AUP1G07DSFR
designator U?
Low-Power Single Buffer/Driver with Open-Drain Outputs, DSF0006A, LARGE T&R; Generic Part Number: SN74AUP1G07; Manufacturer: Texas Instruments; PartNumber: SN74AUP1G07DSFR; VCC(Min)(V): 0.8; VCC(Max)(V): 3.6; Output Type: CMOS; ICC @ Nom Voltage(Max)(mA): 0.0009; Bits(#): 1; F @ Nom Voltage(Max)(Mhz): 100; Rating: Catalog; Technology Family: AUP; Voltage(Nom)(V): 0.8,1.2,1.5,1.8,2.5,3.3; Schmitt Trigger: No; Output Drive (IOL/IOH)(Max)(mA): 20/-20; tpd @ Nom Voltage(Max)(ns): 26.5,14.4,9.4,9.7,6.7,9.7; Logic: True; Sub-Family: Non-Inverting Buffer/Driver; DatasheetVersion: SCES591J; PackageReference: DSF0006A; Supplier 1: Mouser; Supplier Part Number 1: 595-SN74AUP1G07DSFR; Supplier 2: Digi-Key; Supplier Part Number 2: 296-25726-2-ND; Supplier 3: Digi-Key; Supplier Part Number 3: 296-25726-1-ND; Supplier 4: Digi-Key; Supplier Part Number 4: 296-25726-6-ND; Input Type: CMOS; Operating Temperature Range(C): -40 to 85; 3-State Output: No; ComponentLink1Description: Manufacturer URL; ComponentLink1URL: http://www.ti.com/; ComponentLink2Description: Datasheet; ComponentLink2URL: http://www.ti.com/lit/ds/symlink/sn74aup1g07.pdf
footprint DSF0006A_V (SON, 6-Leads, Body 1x1mm, Pitch 0.35mm, TI Recommend)
part A pins: 2 A (in) "Input", 4 Y (oc) "Output"
part B pins: 1 NC "No connect", 3 GND (power) "Ground", 5 NC "No connect", 6 VCC (power) "Power pin"

## SN74AUP1G07YFPR
designator U?
Low-Power Single Buffer/Driver with Open-Drain Outputs, YZP0004AAAA, LARGE T&R; Generic Part Number: SN74AUP1G07; Manufacturer: Texas Instruments; PartNumber: SN74AUP1G07YFPR; VCC(Min)(V): 0.8; VCC(Max)(V): 3.6; Output Type: CMOS; ICC @ Nom Voltage(Max)(mA): 0.0009; Bits(#): 1; F @ Nom Voltage(Max)(Mhz): 100; Rating: Catalog; Technology Family: AUP; Voltage(Nom)(V): 0.8,1.2,1.5,1.8,2.5,3.3; Schmitt Trigger: No; Output Drive (IOL/IOH)(Max)(mA): 20/-20; tpd @ Nom Voltage(Max)(ns): 26.5,14.4,9.4,9.7,6.7,9.7; Logic: True; Sub-Family: Non-Inverting Buffer/Driver; DatasheetVersion: SCES591J; PackageReference: YZP0004AAAA; Supplier 1: Mouser; Supplier Part Number 1: 595-SN74AUP1G07YFPR; Supplier 2: Digi-Key; Supplier Part Number 2: 296-25198-2-ND; Supplier 3: Digi-Key; Supplier Part Number 3: 296-25198-1-ND; Supplier 4: Digi-Key; Supplier Part Number 4: 296-25198-6-ND; Input Type: CMOS; Operating Temperature Range(C): -40 to 85; 3-State Output: No; ComponentLink1Description: Manufacturer URL; ComponentLink1URL: http://www.ti.com/; ComponentLink2Description: Datasheet; ComponentLink2URL: http://www.ti.com/lit/ds/symlink/sn74aup1g07.pdf
footprint YZP0004AAAA (BGA, 4-Balls, Body 0.76x0.76mm, Pitch 0.4mm)
part A pins: A1 A (in) "Input A", B2 Y (oc) "Output Y"
part B pins: A2 VCC (power) "Power Pin", B1 GND (power) "Ground Pin"

## SN74AUP1G07YZPR
designator U?
Low-Power Single Buffer/Driver with Open-Drain Outputs, YZP0005ADAD, LARGE T&R; Generic Part Number: SN74AUP1G07; Manufacturer: Texas Instruments; PartNumber: SN74AUP1G07YZPR; VCC(Min)(V): 0.8; VCC(Max)(V): 3.6; Output Type: CMOS; ICC @ Nom Voltage(Max)(mA): 0.0009; Bits(#): 1; F @ Nom Voltage(Max)(Mhz): 100; Rating: Catalog; Technology Family: AUP; Voltage(Nom)(V): 0.8,1.2,1.5,1.8,2.5,3.3; Schmitt Trigger: No; Output Drive (IOL/IOH)(Max)(mA): 20/-20; tpd @ Nom Voltage(Max)(ns): 26.5,14.4,9.4,9.7,6.7,9.7; Logic: True; Sub-Family: Non-Inverting Buffer/Driver; DatasheetVersion: SCES591J; PackageReference: YZP0005ADAD; Supplier 1: Mouser; Supplier Part Number 1: 595-SN74AUP1G07YZPR; Supplier 2: Digi-Key; Supplier Part Number 2: 296-21010-2-ND; Supplier 3: Digi-Key; Supplier Part Number 3: 296-21010-1-ND; Supplier 4: Digi-Key; Supplier Part Number 4: 296-21010-6-ND; Input Type: CMOS; Operating Temperature Range(C): -40 to 85; 3-State Output: No; ComponentLink1Description: Manufacturer URL; ComponentLink1URL: http://www.ti.com/; ComponentLink2Description: Datasheet; ComponentLink2URL: http://www.ti.com/lit/ds/symlink/sn74aup1g07.pdf
footprint YZP0005ADAD (BGA, 5-Balls, Body 1.39x0.89mm, Pitch 0.5mm)
part A pins: B1 A (in) "Input A", C2 Y (oc) "Output Y"
part B pins: A1 DNU "Do not use", A2 VCC (power) "Power Pin", C1 GND (power) "Ground Pin"

## SN74AUP1G08DBVR
designator U?
Low-Power Single 2-Input Positive-AND Gate, DBV0005A, LARGE T&R; Generic Part Number: SN74AUP1G08; Manufacturer: Texas Instruments; PartNumber: SN74AUP1G08DBVR; VCC(Min)(V): 0.8; VCC(Max)(V): 3.6; Output Type: CMOS; ICC @ Nom Voltage(Max)(mA): 0.0009; Bits(#): 1; F @ Nom Voltage(Max)(Mhz): 100; Rating: Catalog; Technology Family: AUP; Voltage(Nom)(V): 0.8,1.2,1.5,1.8,2.5,3.3; Schmitt Trigger: No; Output Drive (IOL/IOH)(Max)(mA): 20/-20; tpd @ Nom Voltage(Max)(ns): 32.8,20.9,14.2,11,7.6,6.2; Logic: True; Gate Type: AND; DatasheetVersion: SCES502O; PackageReference: DBV0005A; Supplier 1: Mouser; Supplier Part Number 1: 595-SN74AUP1G08DBVR; Supplier 2: Digi-Key; Supplier Part Number 2: 296-19074-2-ND; Supplier 3: Digi-Key; Supplier Part Number 3: 296-19074-1-ND; Supplier 4: Digi-Key; Supplier Part Number 4: 296-19074-6-ND; Input Type: CMOS; Operating Temperature Range(C): -40 to 85; Sub-Family: AND Gate; 3-State Output: No; ComponentLink1Description: Manufacturer URL; ComponentLink1URL: http://www.ti.com/; ComponentLink2Description: Datasheet; ComponentLink2URL: http://www.ti.com/lit/ds/symlink/sn74aup1g08.pdf
footprint DBV0005A_N (SOT23, 5-Leads, Body 3.05x1.75mm, Pitch 0.95mm, IPC Medium Density)
footprint DBV0005A_M (SOT23, 5-Leads, Body 3.05x1.75mm, Pitch 0.95mm, IPC Low Density)
footprint DBV0005A_L (SOT23, 5-Leads, Body 3.05x1.75mm, Pitch 0.95mm, IPC High Density)
part A pins: 1 A (in) "Input A", 2 B (in) "Input B", 4 Y (out) "Output Y"
part B pins: 3 GND (power) "Ground Pin", 5 VCC (power) "Power Pin"

## SN74AUP1G08DBVT
designator U?
Low-Power Single 2-Input Positive-AND Gate, DBV0005A, SMALL T&R; Generic Part Number: SN74AUP1G08; Manufacturer: Texas Instruments; PartNumber: SN74AUP1G08DBVT; VCC(Min)(V): 0.8; VCC(Max)(V): 3.6; Output Type: CMOS; ICC @ Nom Voltage(Max)(mA): 0.0009; Bits(#): 1; F @ Nom Voltage(Max)(Mhz): 100; Rating: Catalog; Technology Family: AUP; Voltage(Nom)(V): 0.8,1.2,1.5,1.8,2.5,3.3; Schmitt Trigger: No; Output Drive (IOL/IOH)(Max)(mA): 20/-20; tpd @ Nom Voltage(Max)(ns): 32.8,20.9,14.2,11,7.6,6.2; Logic: True; Gate Type: AND; DatasheetVersion: SCES502O; PackageReference: DBV0005A; Supplier 1: Mouser; Supplier Part Number 1: 595-SN74AUP1G08DBVT; Supplier 2: Digi-Key; Supplier Part Number 2: 296-41491-2-ND; Supplier 3: Digi-Key; Supplier Part Number 3: 296-41491-1-ND; Supplier 4: Digi-Key; Supplier Part Number 4: 296-41491-6-ND; Input Type: CMOS; Operating Temperature Range(C): -40 to 85; Sub-Family: AND Gate; 3-State Output: No; ComponentLink1Description: Manufacturer URL; ComponentLink1URL: http://www.ti.com/; ComponentLink2Description: Datasheet; ComponentLink2URL: http://www.ti.com/lit/ds/symlink/sn74aup1g08.pdf
footprint DBV0005A_N (SOT23, 5-Leads, Body 3.05x1.75mm, Pitch 0.95mm, IPC Medium Density)
footprint DBV0005A_M (SOT23, 5-Leads, Body 3.05x1.75mm, Pitch 0.95mm, IPC Low Density)
footprint DBV0005A_L (SOT23, 5-Leads, Body 3.05x1.75mm, Pitch 0.95mm, IPC High Density)
part A pins: 1 A (in) "Input A", 2 B (in) "Input B", 4 Y (out) "Output Y"
part B pins: 3 GND (power) "Ground Pin", 5 VCC (power) "Power Pin"

## SN74AUP1G08DCKR
designator U?
Low-Power Single 2-Input Positive-AND Gate, DCK0005A, LARGE T&R; Generic Part Number: SN74AUP1G08; Manufacturer: Texas Instruments; PartNumber: SN74AUP1G08DCKR; VCC(Min)(V): 0.8; VCC(Max)(V): 3.6; Output Type: CMOS; ICC @ Nom Voltage(Max)(mA): 0.0009; Bits(#): 1; F @ Nom Voltage(Max)(Mhz): 100; Rating: Catalog; Technology Family: AUP; Voltage(Nom)(V): 0.8,1.2,1.5,1.8,2.5,3.3; Schmitt Trigger: No; Output Drive (IOL/IOH)(Max)(mA): 20/-20; tpd @ Nom Voltage(Max)(ns): 32.8,20.9,14.2,11,7.6,6.2; Logic: True; Gate Type: AND; DatasheetVersion: SCES502O; PackageReference: DCK0005A; Supplier 1: Mouser; Supplier Part Number 1: 595-SN74AUP1G08DCKR; Supplier 2: Digi-Key; Supplier Part Number 2: 296-19075-2-ND; Supplier 3: Digi-Key; Supplier Part Number 3: 296-19075-1-ND; Supplier 4: Digi-Key; Supplier Part Number 4: 296-19075-6-ND; Input Type: CMOS; Operating Temperature Range(C): -40 to 85; Sub-Family: AND Gate; 3-State Output: No; ComponentLink1Description: Manufacturer URL; ComponentLink1URL: http://www.ti.com/; ComponentLink2Description: Datasheet; ComponentLink2URL: http://www.ti.com/lit/ds/symlink/sn74aup1g08.pdf
footprint DCK0005A_N (SOT23, 5-Leads, Body 2.15x1.4mm, Pitch 0.65mm, IPC Medium Density)
footprint DCK0005A_M (SOT23, 5-Leads, Body 2.15x1.4mm, Pitch 0.65mm, IPC Low Density)
footprint DCK0005A_L (SOT23, 5-Leads, Body 2.15x1.4mm, Pitch 0.65mm, IPC High Density)
part A pins: 1 A (in) "Input A", 2 B (in) "Input B", 4 Y (out) "Output Y"
part B pins: 3 GND (power) "Ground Pin", 5 VCC (power) "Power Pin"

## SN74AUP1G08DCKT
designator U?
Low-Power Single 2-Input Positive-AND Gate, DCK0005A, SMALL T&R; Generic Part Number: SN74AUP1G08; Manufacturer: Texas Instruments; PartNumber: SN74AUP1G08DCKT; VCC(Min)(V): 0.8; VCC(Max)(V): 3.6; Output Type: CMOS; ICC @ Nom Voltage(Max)(mA): 0.0009; Bits(#): 1; F @ Nom Voltage(Max)(Mhz): 100; Rating: Catalog; Technology Family: AUP; Voltage(Nom)(V): 0.8,1.2,1.5,1.8,2.5,3.3; Schmitt Trigger: No; Output Drive (IOL/IOH)(Max)(mA): 20/-20; tpd @ Nom Voltage(Max)(ns): 32.8,20.9,14.2,11,7.6,6.2; Logic: True; Gate Type: AND; DatasheetVersion: SCES502O; PackageReference: DCK0005A; Supplier 1: Mouser; Supplier Part Number 1: 595-SN74AUP1G08DCKT; Supplier 2: Digi-Key; Supplier Part Number 2: 296-32258-2-ND; Supplier 3: Digi-Key; Supplier Part Number 3: 296-32258-1-ND; Supplier 4: Digi-Key; Supplier Part Number 4: 296-32258-6-ND; Input Type: CMOS; Operating Temperature Range(C): -40 to 85; Sub-Family: AND Gate; 3-State Output: No; ComponentLink1Description: Manufacturer URL; ComponentLink1URL: http://www.ti.com/; ComponentLink2Description: Datasheet; ComponentLink2URL: http://www.ti.com/lit/ds/symlink/sn74aup1g08.pdf
footprint DCK0005A_N (SOT23, 5-Leads, Body 2.15x1.4mm, Pitch 0.65mm, IPC Medium Density)
footprint DCK0005A_M (SOT23, 5-Leads, Body 2.15x1.4mm, Pitch 0.65mm, IPC Low Density)
footprint DCK0005A_L (SOT23, 5-Leads, Body 2.15x1.4mm, Pitch 0.65mm, IPC High Density)
part A pins: 1 A (in) "Input A", 2 B (in) "Input B", 4 Y (out) "Output Y"
part B pins: 3 GND (power) "Ground Pin", 5 VCC (power) "Power Pin"

## SN74AUP1G08DPWR
designator U?
Low-Power Single 2-Input Positive-AND Gate, DPW0004A, LARGE T&R; Generic Part Number: SN74AUP1G08; Manufacturer: Texas Instruments; PartNumber: SN74AUP1G08DPWR; VCC(Min)(V): 0.8; VCC(Max)(V): 3.6; Output Type: CMOS; ICC @ Nom Voltage(Max)(mA): 0.0009; Bits(#): 1; F @ Nom Voltage(Max)(Mhz): 100; Rating: Catalog; Technology Family: AUP; Voltage(Nom)(V): 0.8,1.2,1.5,1.8,2.5,3.3; Schmitt Trigger: No; Output Drive (IOL/IOH)(Max)(mA): 20/-20; tpd @ Nom Voltage(Max)(ns): 32.8,20.9,14.2,11,7.6,6.2; Logic: True; Gate Type: AND; DatasheetVersion: SCES502O; PackageReference: DPW0004A; Supplier 1: Mouser; Supplier Part Number 1: 595-SN74AUP1G08DPWR; Supplier 2: Digi-Key; Supplier Part Number 2: 296-38021-2-ND; Supplier 3: Digi-Key; Supplier Part Number 3: 296-38021-1-ND; Supplier 4: Digi-Key; Supplier Part Number 4: 296-38021-6-ND; Input Type: CMOS; Operating Temperature Range(C): -40 to 85; Sub-Family: AND Gate; 3-State Output: No; ComponentLink1Description: Manufacturer URL; ComponentLink1URL: http://www.ti.com/; ComponentLink2Description: Datasheet; ComponentLink2URL: http://www.ti.com/lit/ds/symlink/sn74aup1g08.pdf
footprint DPW0004A_V (SON, 5-Leads, Body 0.8x0.8mm, TI Recommend)
part A pins: 1 B (in) "Input B", 2 A (in) "Input A", 4 Y (out) "Output Y"
part B pins: 3 GND (power) "Ground", 5 VCC (power) "Power pin"

## SN74AUP1G08DRLR
designator U?
Low-Power Single 2-Input Positive-AND Gate, DRL0005A, LARGE T&R; Generic Part Number: SN74AUP1G08; Manufacturer: Texas Instruments; PartNumber: SN74AUP1G08DRLR; VCC(Min)(V): 0.8; VCC(Max)(V): 3.6; Output Type: CMOS; ICC @ Nom Voltage(Max)(mA): 0.0009; Bits(#): 1; F @ Nom Voltage(Max)(Mhz): 100; Rating: Catalog; Technology Family: AUP; Voltage(Nom)(V): 0.8,1.2,1.5,1.8,2.5,3.3; Schmitt Trigger: No; Output Drive (IOL/IOH)(Max)(mA): 20/-20; tpd @ Nom Voltage(Max)(ns): 32.8,20.9,14.2,11,7.6,6.2; Logic: True; Gate Type: AND; DatasheetVersion: SCES502O; PackageReference: DRL0005A; Supplier 1: Mouser; Supplier Part Number 1: 595-SN74AUP1G08DRLR; Supplier 2: Digi-Key; Supplier Part Number 2: 296-18650-2-ND; Supplier 3: Digi-Key; Supplier Part Number 3: 296-18650-1-ND; Supplier 4: Digi-Key; Supplier Part Number 4: 296-18650-6-ND; Input Type: CMOS; Operating Temperature Range(C): -40 to 85; Sub-Family: AND Gate; 3-State Output: No; ComponentLink1Description: Manufacturer URL; ComponentLink1URL: http://www.ti.com/; ComponentLink2Description: Datasheet; ComponentLink2URL: http://www.ti.com/lit/ds/symlink/sn74aup1g08.pdf
footprint DRL0005A_N (SOT23, 5-Leads, Body 1.7x1.3mm, Pitch 0.5mm, IPC Medium Density)
footprint DRL0005A_M (SOT23, 5-Leads, Body 1.7x1.3mm, Pitch 0.5mm, IPC Low Density)
footprint DRL0005A_L (SOT23, 5-Leads, Body 1.7x1.3mm, Pitch 0.5mm, IPC High Density)
part A pins: 1 A (in) "Input A", 2 B (in) "Input B", 4 Y (out) "Output Y"
part B pins: 3 GND (power) "Ground Pin", 5 VCC (power) "Power Pin"